# EAGLE library part M10 (library custom-connectors)
10-Way Connector
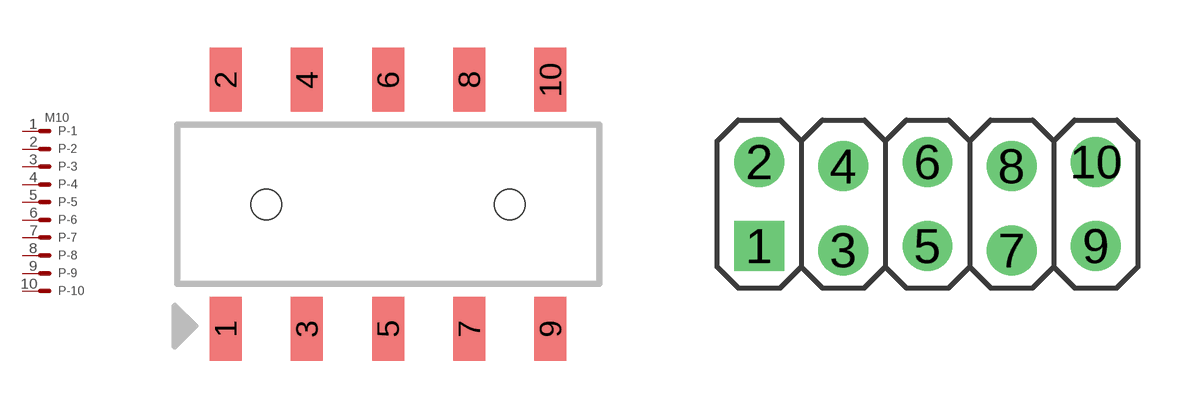
[diagram p8: symbol with the pads of NPPC052KFMS-RC; footprints NPPC052KFMS-RC, 2X05_LOCK]

Designator prefix P; gates -1=MV -2=M -3=M -4=M -5=M -6=M -7=M -8=M -9=M -10=M

## M10_1.27_SMT (DIGI-KEY: S5714-ND)  [NPPC052KFMS-RC]
1  -1:S  pas
2  -2:S  pas
3  -3:S  pas
4  -4:S  pas
5  -5:S  pas
6  -6:S  pas
7  -7:S  pas
8  -8:S  pas
9  -9:S  pas
10  -10:S  pas

## M10_SIP  [2X05_LOCK]
Pads as for NPPC052KFMS-RC

## M10_DF13H (DIGI-KEY: H3388-ND)  [DF13A-10P-1.25H]
Pads as for NPPC052KFMS-RC

## M10_DF13V (DIGI-KEY: H3440-ND)  [DF13C-10P-1.25V]
Pads as for NPPC052KFMS-RC

## Footprint NPPC052KFMS-RC (pad centres in mm)
smd 1 x 2: 1 -5.08,-3.9; 2 -5.08,3.9; 3 -2.54,-3.9; 4 -2.54,3.9; 5 0,-3.9; 6 0,3.9; 7 2.54,-3.9; 8 2.54,3.9; 9 5.08,-3.9; 10 5.08,3.9
hole 0.95 at -3.81,0
hole 0.95 at 3.81,0

## Footprint 2X05_LOCK (pad centres in mm)
drill 1 square: 1 -5.08,-1.27
drill 1: 2 -5.08,1.27; 3 -2.54,-1.397; 4 -2.54,1.143; 5 0,-1.27; 6 0,1.27; 7 2.54,-1.397; 8 2.54,1.143; 9 5.08,-1.27; 10 5.08,1.27

## Footprint DF13A-10P-1.25H (pad centres in mm)
smd 0.7 x 1.8: 1 -5.625,0; 2 -4.375,0; 3 -3.125,0; 4 -1.875,0; 5 -0.635,0; 6 0.625,0; 7 1.875,0; 8 3.125,0; 9 4.375,0; 10 5.625,0
smd 1.6 x 2.2: NC1 -7.895,3.3; NC2 7.895,3.3

## Footprint DF13C-10P-1.25V (pad centres in mm)
smd 0.7 x 1.8: 1 -5.625,0; 2 -4.375,0; 3 -3.125,0; 4 -1.875,0; 5 -0.625,0; 6 0.625,0; 7 1.875,0; 8 3.125,0; 9 4.375,0; 10 5.625,0
smd 1.6 x 2.2: NC1 -7.875,2.7; NC2 7.875,2.7